# Altium integrated library EVQ-P7C01P.IntLib: 1 symbol
Pins are listed as number, name and electrical type; pins without a type are passive.

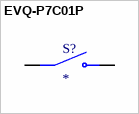
[diagram p0: symbol EVQ-P7C01P]

## EVQ-P7C01P
designator S?
Switch;Tactile;3.5x2.9mm;1KV;Right Angle;Light Touch Switch | Panasonic Electronic Components EVQ-P7C01P; SnapEDA_Link: https://www.snapeda.com/parts/EVQ-P7C01P/Panasonic+Electronic+Components/view-part/?ref=snap; Package: None; Value: *; MF: Panasonic Electronic; MP: EVQ-P7C01P; Check_prices: https://www.snapeda.com/parts/EVQ-P7C01P/Panasonic+Electronic+Components/view-part/?ref=eda
footprint SW_EVQ-P7C01P
pins: 1_1 1, 1_2 1, 2_1 2, 2_2 2